# EAGLE library part USB-A (library Mechanical)
Kycon KUSB-AS-1 USB Type A connector
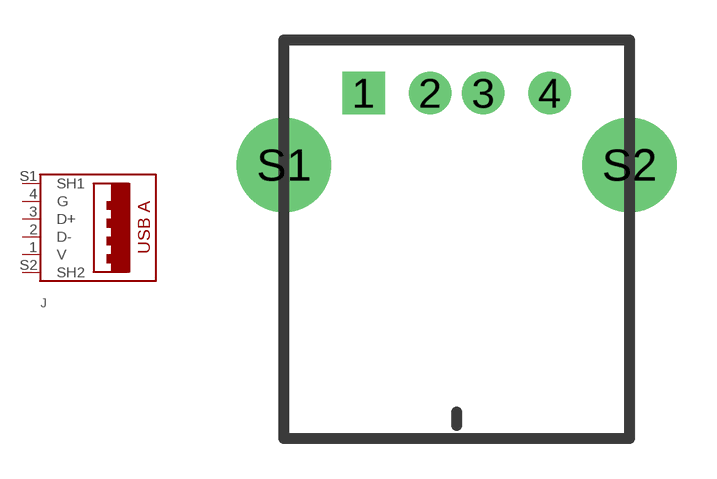
[diagram p45: symbol with the pads of USB-A; footprint USB-A]

Designator prefix J

## USB-A  [USB-A]
1  V
2  D-
3  D+
4  G
S1  SH1
S2  SH2

## Footprint USB-A (pad centres in mm)
Kycon KUSB-AS-1 USB type A connector
drill 1.067 square: 1 -3.5,0
drill 1.067: 2 -1,0; 3 1,0; 4 3.5,0
drill 2.54: S1 -6.5,-2.71; S2 6.5,-2.71